# EAGLE library part LM339 (library customics)
Low-power quad voltage comparators Data Sheet <https://www.st.com/content/ccc/resource/technical/document/datasheet/bf/7e/d7/a4/67/86/4e/89/CD00000460.pdf/files/CD00000460.pdf/jcr:content/translations/en.CD00000460.pdf>
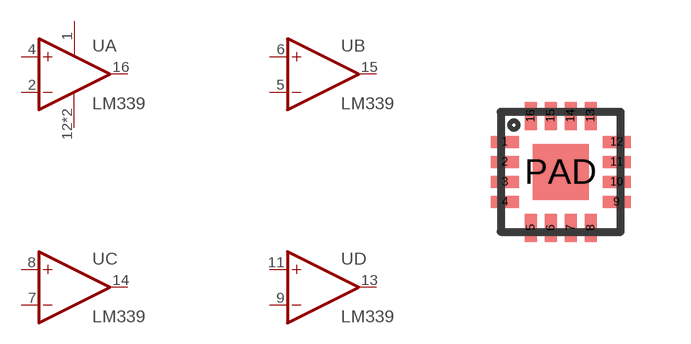
[diagram p8: symbol with the pads of QFN16; footprint QFN16]

Designator prefix U; gates A=COMPARATOR+- B=COMPARATOR C=COMPARATOR D=COMPARATOR

## LM339  [QFN16]
1  A:V+  pwr
2  A:-IN  in
4  A:+IN  in
5  B:-IN  in
6  B:+IN  in
7  C:-IN  in
8  C:+IN  in
9  D:-IN  in
11  D:+IN  in
12  A:V-  pwr
13  D:OUT  out
14  C:OUT  out
15  B:OUT  out
16  A:OUT  out
PAD  A:V-  pwr

## Footprint QFN16 (pad centres in mm)
QFN-16 3 x 3 mm Source: Data sheet <https://www.st.com/content/ccc/resource/technical/document/datasheet/bf/7e/d7/a4/67/86/4e/89/CD00000460.pdf/files/CD00000460.pdf/jcr:content/translations/en.CD00000460.pdf>
smd 0.7 x 0.3: 1 -1.4,0.75; 2 -1.4,0.25; 3 -1.4,-0.25; 4 -1.4,-0.75; 9 1.4,-0.75; 10 1.4,-0.25; 11 1.4,0.25; 12 1.4,0.75
smd 0.3 x 0.7: 5 -0.75,-1.4; 6 -0.25,-1.4; 7 0.25,-1.4; 8 0.75,-1.4; 13 0.75,1.4; 14 0.25,1.4; 15 -0.25,1.4; 16 -0.75,1.4
smd 1.4 x 1.4: PAD 0,0